# EAGLE library part TERM_10PIN_6.35MM (library tigorcustom)
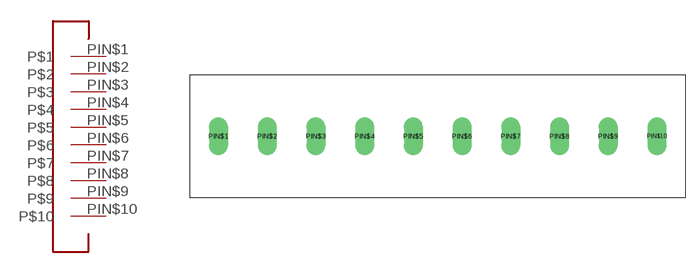
[diagram p5: symbol with the pads of TERM_10PIN_6.35MM; footprint TERM_10PIN_6.35MM]

Designator prefix -

## TERM_10PIN_6.35MM  [TERM_10PIN_6.35MM]
PIN$1  P$1
PIN$2  P$2
PIN$3  P$3
PIN$4  P$4
PIN$5  P$5
PIN$6  P$6
PIN$7  P$7
PIN$8  P$8
PIN$9  P$9
PIN$10  P$10

## Footprint TERM_10PIN_6.35MM (pad centres in mm)
drill 1.65 long: PIN$1 -28.575,0; PIN$2 -22.225,0; PIN$3 -15.875,0; PIN$4 -9.525,0; PIN$5 -3.175,0; PIN$6 3.175,0; PIN$7 9.525,0; PIN$8 15.875,0; PIN$9 22.225,0; PIN$10 28.575,0